# Altium integrated library Weapon_of_Aphelios.IntLib: 26 symbols
Pins are listed as number, name and electrical type; pins without a type are passive.

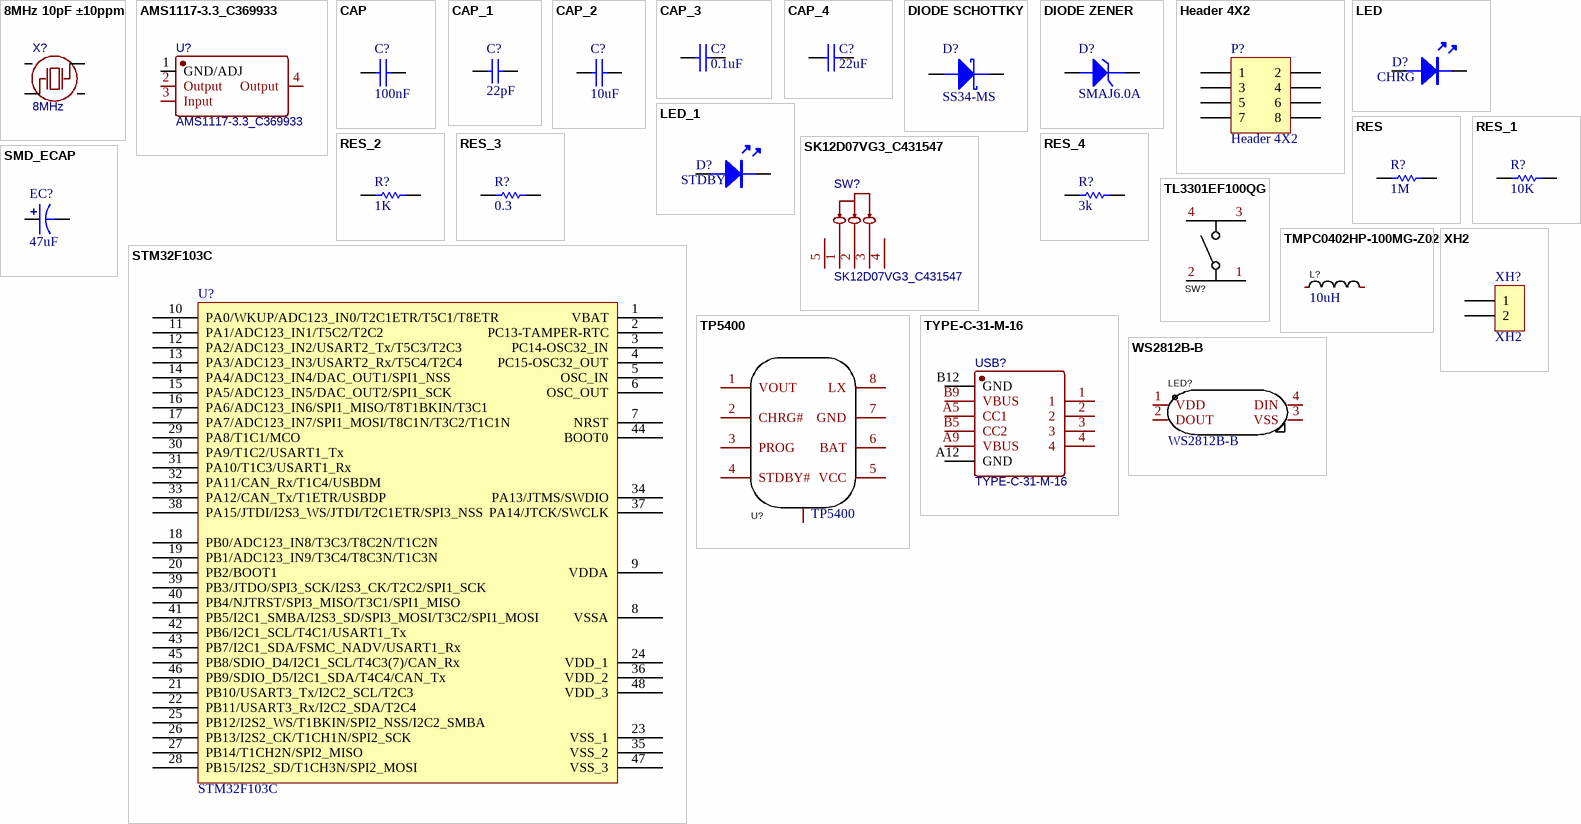
[diagram p0: symbols 8MHz 10pF ±10ppm to XH2]

## 8MHz 10pF ±10ppm
designator X?, comment 8MHz
BOM_Manufacturer: Zhejiang Abel Elec; BOM_Manufacturer Part: TAXM8M4RDBCCT2T; nameAlias: Frequency; Contributor: LCSC; BOM_Paste Type: expand; BOM_Assembly Type: smtWeld; BOM_Supplier: LCSC; BOM_Supplier Part: C400090; spicePre: X; spiceSymbolName: TAXM8M4RDBCCT2T
footprint OSC-SMD_4P-L3.2-W2.5-BL
pins: 1, 2, 3, 4

## AMS1117-3.3_C369933
designator U?
BOM_Manufacturer: KEXIN; Contributor: LCSC; BOM_Paste Type: expand; BOM_Assembly Type: smtWeld; BOM_Supplier: LCSC; BOM_Supplier Part: C369933; BOM_Manufacturer Part: AMS1117-3.3; spicePre: U; spiceSymbolName: AMS1117-3.3_C369933
footprint SOT-223-4_L6.5-W3.5-P2.30-LS7.0-BR
pins: 1 GND/ADJ, 2 Output, 3 Input, 4 Output

## CAP
designator C?, comment 100nF
无极性电容
footprint 0201C
footprint 0402C
footprint 0603C
footprint 0805C
footprint 1206C
footprint 1210C
footprint 1808C
footprint 1812C
footprint 1825C
footprint 2225C
footprint RAD-0.2
footprint RAD-0.3
pins: 1, 2

## CAP_1
designator C?, comment 22pF
footprint 0603C (Footprint not found)
pins: 1, 2

## CAP_2
designator C?, comment 10uF
无极性电容
footprint 0201C
footprint 0402C
footprint 0603C
footprint 0805C
footprint 1206C
footprint 1210C
footprint 1808C
footprint 1812C
footprint 1825C
footprint 2225C
footprint RAD-0.2
footprint RAD-0.3
pins: 1, 2

## CAP_3
designator C?, comment 0.1uF
无极性电容
footprint 0201C
footprint 0402C
footprint 0603C
footprint 0805C
footprint 1206C
footprint 1210C
footprint 1808C
footprint 1812C
footprint 1825C
footprint 2225C
footprint RAD-0.2
footprint RAD-0.3
pins: 1, 2

## CAP_4
designator C?, comment 22uF
无极性电容
footprint 0201C
footprint 0402C
footprint 0603C
footprint 0805C
footprint 1206C
footprint 1210C
footprint 1808C
footprint 1812C
footprint 1825C
footprint 2225C
footprint RAD-0.2
footprint RAD-0.3
pins: 1, 2

## DIODE SCHOTTKY
designator D?, comment SS34-MS
肖特基二极管
footprint DO-15
footprint DO-15L
footprint DO-15LV
footprint DO-15V
footprint DO-27
footprint DO-27V
footprint DO-35
footprint DO-35V
footprint DO-41
footprint DO-41G
footprint DO-41GV
footprint DO-41V
footprint DO-201AD
footprint DO-201ADV
footprint LL34 (玻封二极管)
footprint SMA/DO-214AC (塑封二极管)
footprint SMB/DO-214AA (塑封二极管)
footprint SMC/DO-214AB (塑封二极管)
footprint SOD-123 (塑封二极管)
footprint SOD-323 (塑封二极管)
footprint SOD-523 (塑封二极管)
pins: A, K

## DIODE ZENER
designator D?, comment SMAJ6.0A
瞬态二极管 SMAJ6.0A DO-214AC 6.0V
footprint DO-15
footprint DO-15L
footprint DO-15LV
footprint DO-15V
footprint DO-27
footprint DO-27V
footprint DO-35
footprint DO-35V
footprint DO-41
footprint DO-41G
footprint DO-41GV
footprint DO-41V
footprint DO-201AD
footprint DO-201ADV
footprint LL34 (玻封二极管)
footprint SMA/DO-214AC (塑封二极管)
footprint SMB/DO-214AA (塑封二极管)
footprint SMC/DO-214AB (塑封二极管)
footprint SOD-123 (塑封二极管)
footprint SOD-323 (塑封二极管)
footprint SOD-523 (塑封二极管)
pins: A, K

## Header 4X2
designator P?
Header, 4-Pin, Dual row; LatestRevisionDate: 17-Jul-2002; LatestRevisionNote: Re-released for DXP Platform.; Publisher: Altium Limited
footprint HDR2X4 (Connector; Header; 4x2 Position)
signal-integrity model Connector
pins: 1, 2, 3, 4, 5, 6, 7, 8

## LED
designator D?, comment CHRG
footprint LED5-BLUE
footprint LED5-GRE
footprint LED5-RED
footprint LED5-YEL
footprint LED3-BLUE
footprint LED3-GRE
footprint LED3-RED
footprint LED3-YEL
footprint 1WLED
footprint LED-0603B
footprint LED-0603G
footprint LED-0805R
footprint LED-0603W
footprint LED-0603Y
footprint LED-0805B
footprint LED-0805G
footprint LED-0805R
footprint LED-0603W
footprint LED-0805Y
footprint LED-1206B
footprint LED-1206G
footprint LED-1206R
footprint LED-1206W
footprint LED-1206Y
pins: A, K

## LED_1
designator D?, comment STDBY
footprint LED5-BLUE
footprint LED5-GRE
footprint LED5-RED
footprint LED5-YEL
footprint LED3-BLUE
footprint LED3-GRE
footprint LED3-RED
footprint LED3-YEL
footprint 1WLED
footprint LED-0603B
footprint LED-0603G
footprint LED-0805R
footprint LED-0603W
footprint LED-0603Y
footprint LED-0805B
footprint LED-0805G
footprint LED-0805R
footprint LED-0603W
footprint LED-0805Y
footprint LED-1206B
footprint LED-1206G
footprint LED-1206R
footprint LED-1206W
footprint LED-1206Y
pins: A, K

## RES
designator R?, comment 1M
footprint 0201R
footprint 0402R
footprint 0603R
footprint 0805R
footprint 1206R
footprint 1812R
footprint 2010R
footprint 2512R
footprint AXIAL0.3
footprint AXIAL0.4 (1/4W/1/2W)
footprint AXIAL0.5 (1/2W/1W)
footprint AXIAL0.6 (Variable Resistor; 2 Leads)
footprint AXIAL0.7 (Variable Resistor; 2 Leads)
footprint AXIAL0.9 (Magnetic-Core Inductor; 2 Leads)
footprint AXIAL0.8 (Adjustable Inductor; 2 Leads)
footprint AXIAL1.0 (Adjustable Magnetic-Core Inductor; 2 Leads)
pins: 1, 2

## RES_1
designator R?, comment 10K
footprint 0201R
footprint 0402R
footprint 0603R
footprint 0805R
footprint 1206R
footprint 1812R
footprint 2010R
footprint 2512R
footprint AXIAL0.3
footprint AXIAL0.4 (1/4W/1/2W)
footprint AXIAL0.5 (1/2W/1W)
footprint AXIAL0.6 (Variable Resistor; 2 Leads)
footprint AXIAL0.7 (Variable Resistor; 2 Leads)
footprint AXIAL0.9 (Magnetic-Core Inductor; 2 Leads)
footprint AXIAL0.8 (Adjustable Inductor; 2 Leads)
footprint AXIAL1.0 (Adjustable Magnetic-Core Inductor; 2 Leads)
pins: 1, 2

## RES_2
designator R?, comment 1K
footprint 0201R
footprint 0402R
footprint 0603R
footprint 0805R
footprint 1206R
footprint 1812R
footprint 2010R
footprint 2512R
footprint AXIAL0.3
footprint AXIAL0.4 (1/4W/1/2W)
footprint AXIAL0.5 (1/2W/1W)
footprint AXIAL0.6 (Variable Resistor; 2 Leads)
footprint AXIAL0.7 (Variable Resistor; 2 Leads)
footprint AXIAL0.9 (Magnetic-Core Inductor; 2 Leads)
footprint AXIAL0.8 (Adjustable Inductor; 2 Leads)
footprint AXIAL1.0 (Adjustable Magnetic-Core Inductor; 2 Leads)
pins: 1, 2

## RES_3
designator R?, comment 0.3
footprint 0201R
footprint 0402R
footprint 0603R
footprint 0805R
footprint 1206R
footprint 1812R
footprint 2010R
footprint 2512R
footprint AXIAL0.3
footprint AXIAL0.4 (1/4W/1/2W)
footprint AXIAL0.5 (1/2W/1W)
footprint AXIAL0.6 (Variable Resistor; 2 Leads)
footprint AXIAL0.7 (Variable Resistor; 2 Leads)
footprint AXIAL0.9 (Magnetic-Core Inductor; 2 Leads)
footprint AXIAL0.8 (Adjustable Inductor; 2 Leads)
footprint AXIAL1.0 (Adjustable Magnetic-Core Inductor; 2 Leads)
pins: 1, 2

## RES_4
designator R?, comment 3k
footprint 0201R
footprint 0402R
footprint 0603R
footprint 0805R
footprint 1206R
footprint 1812R
footprint 2010R
footprint 2512R
footprint AXIAL0.3
footprint AXIAL0.4 (1/4W/1/2W)
footprint AXIAL0.5 (1/2W/1W)
footprint AXIAL0.6 (Variable Resistor; 2 Leads)
footprint AXIAL0.7 (Variable Resistor; 2 Leads)
footprint AXIAL0.9 (Magnetic-Core Inductor; 2 Leads)
footprint AXIAL0.8 (Adjustable Inductor; 2 Leads)
footprint AXIAL1.0 (Adjustable Magnetic-Core Inductor; 2 Leads)
pins: 1, 2

## SK12D07VG3_C431547
designator SW?
BOM_Manufacturer: SHOU HAN; Contributor: LCSC; BOM_Supplier: LCSC; BOM_Supplier Part: C431547; BOM_Manufacturer Part: SK12D07VG3; BOM_JLCPCB Part Class: Extended Part; spicePre: S; spiceSymbolName: SK12D07VG3_C431547
footprint SW-TH_SK12D07VG3
pins: 1, 2, 3, 4, 5

## SMD_ECAP
designator EC?, comment 47uF
贴片电解电容
footprint SMD-EC3.0X3.3X5.4
footprint SMD-EC4.0X4.3X5.4
footprint SMD-EC5.0X5.3X5.4
footprint SMD-EC6.3X6.3X10
footprint SMD-EC8X8X10
footprint SMD-EC10X10X10
footprint SMD-EC-F12.5
footprint SMD-EC-F16
pins: 1, 2

## STM32F103C
designator U?
STM32单片机48引脚
footprint LQFP-48_M (Thin QFP, 48-Leads, Body 7x7mm, Pitch 0.5mm, IPC Low Density)
pins: 1 VBAT, 2 PC13-TAMPER-RTC, 3 PC14-OSC32_IN, 4 PC15-OSC32_OUT, 5 OSC_IN, 6 OSC_OUT, 7 NRST, 8 VSSA, 9 VDDA, 10 PA0/WKUP/ADC123_IN0/T2C1ETR/T5C1/T8ETR, 11 PA1/ADC123_IN1/T5C2/T2C2, 12 PA2/ADC123_IN2/USART2_Tx/T5C3/T2C3, 13 PA3/ADC123_IN3/USART2_Rx/T5C4/T2C4, 14 PA4/ADC123_IN4/DAC_OUT1/SPI1_NSS, 15 PA5/ADC123_IN5/DAC_OUT2/SPI1_SCK, 16 PA6/ADC123_IN6/SPI1_MISO/T8T1BKIN/T3C1, 17 PA7/ADC123_IN7/SPI1_MOSI/T8C1N/T3C2/T1C1N, 18 PB0/ADC123_IN8/T3C3/T8C2N/T1C2N, 19 PB1/ADC123_IN9/T3C4/T8C3N/T1C3N, 20 PB2/BOOT1, 21 PB10/USART3_Tx/I2C2_SCL/T2C3, 22 PB11/USART3_Rx/I2C2_SDA/T2C4, 23 VSS_1, 24 VDD_1, 25 PB12/I2S2_WS/T1BKIN/SPI2_NSS/I2C2_SMBA, 26 PB13/I2S2_CK/T1CH1N/SPI2_SCK, 27 PB14/T1CH2N/SPI2_MISO, 28 PB15/I2S2_SD/T1CH3N/SPI2_MOSI, 29 PA8/T1C1/MCO, 30 PA9/T1C2/USART1_Tx, 31 PA10/T1C3/USART1_Rx, 32 PA11/CAN_Rx/T1C4/USBDM, 33 PA12/CAN_Tx/T1ETR/USBDP, 34 PA13/JTMS/SWDIO, 35 VSS_2, 36 VDD_2, 37 PA14/JTCK/SWCLK, 38 PA15/JTDI/I2S3_WS/JTDI/T2C1ETR/SPI3_NSS, 39 PB3/JTDO/SPI3_SCK/I2S3_CK/T2C2/SPI1_SCK, 40 PB4/NJTRST/SPI3_MISO/T3C1/SPI1_MISO, 41 PB5/I2C1_SMBA/I2S3_SD/SPI3_MOSI/T3C2/SPI1_MOSI, 42 PB6/I2C1_SCL/T4C1/USART1_Tx, 43 PB7/I2C1_SDA/FSMC_NADV/USART1_Rx, 44 BOOT0, 45 PB8/SDIO_D4/I2C1_SCL/T4C3(7)/CAN_Rx, 46 PB9/SDIO_D5/I2C1_SDA/T4C4/CAN_Tx, 47 VSS_3, 48 VDD_3

## TL3301EF100QG
designator SW?  (value not drawn)
Manufacturer: E-Switch; Add into BOM: yes; Contact Current: 50mA; Voltage Rating (DC): 12V; Circuit: 单刀单掷; Actuator Style: 圆形按钮; Switch Length: 6mm; Switch Height: 3.7mm; Name: TL3301EF100QG; Symbol: TL3301EF100QG; Device: TL3301EF100QG; LCSC Part Name: TL3301EF100QG; Supplier Part: C273499; Manufacturer Part: TL3301EF100QG; Supplier Footprint: SMD,6x6mm; JLCPCB Part Class: Extended Part; Datasheet: https://atta.szlcsc.com/upload/public/pdf/source/20181030/C273499_C7AAC60B73C66F9CC8848B3DA9BBFF04.pdf; Supplier: LCSC; Convert to PCB: yes; Mounting Style: 立贴; With Lamp: -; Switch Width: 6mm
footprint KEY-SMD_4P-L6.0-W6.0-P4.50-LS10.0
3D model SMD_4P-L6.0-W6.0-H5.0-LS10.0-P4.5
pins: 1, 2, 3, 4

## TMPC0402HP-100MG-Z02
designator L?, comment 10uH
Manufacturer: 台庆; Symbol: TMPC0402HP-100MG-Z02; Add into BOM: yes; Tolerance: ±20%; Rated Current: 1.4A; DC Resistance (DCR): 215mΩ; Name: 10uH; Device: TMPC0402HP-100MG-Z02; LCSC Part Name: 10uH ±20% 1.4A 215mΩ; Supplier Part: C305203; Manufacturer Part: TMPC0402HP-100MG-Z02; Supplier Footprint: SMD; JLCPCB Part Class: Extended Part; Datasheet: https://atta.szlcsc.com/upload/public/pdf/source/20200917/C305203_F071C71654DE86DE842DF29DC4BB6A78.pdf; Supplier: LCSC; Convert to PCB: yes; Value: 10uH
footprint IND-SMD_L4.5-W4.1_TMPA0402SP
pins: 1, 2

## TP5400
designator U?
Manufacturer: TOPPOWER(南京拓微); Add into BOM: yes; Name: TP5400; Symbol: TP5400; Device: TP5400; LCSC Part Name: TP5400; Supplier Part: C24154; Manufacturer Part: TP5400; Supplier Footprint: SOIC-8_EP_150mil; JLCPCB Part Class: Extended Part; Datasheet: https://atta.szlcsc.com/upload/public/pdf/source/20131206/1457706662490.pdf; Supplier: LCSC; Convert to PCB: yes; Battery Chemistry: -; Number of Cells: -; Charge Current - Max: -; Battery Pack Voltage: -; Voltage - Supply (Max): -; Interface: -
footprint SOIC-8_L5.0-W4.0-P1.27-LS6.0-BL-EP2.0
pins: 1 VOUT, 2 CHRG#, 3 PROG, 4 STDBY#, 5 VCC, 6 BAT, 7 GND, 8 LX, 9

## TYPE-C-31-M-16
designator USB?
footprint TYPE-C-31-M-16
pins: 1, 2, 3, 4, A5 CC1, A9 VBUS, A12 GND, B5 CC2, B9 VBUS, B12 GND

## WS2812B-B
designator LED?
Manufacturer: worldsemi; Add into BOM: yes; Emitted Color: RGB三色; Name: WS2812B-B; Symbol: WS2812B-B; Device: WS2812B-B; LCSC Part Name: RGB三色 （注意防潮，请查阅规格书中对应具体内容）; Supplier Part: C114586; Manufacturer Part: WS2812B-B; Supplier Footprint: 5050(mm); JLCPCB Part Class: Extended Part; Datasheet: https://atta.szlcsc.com/upload/public/pdf/source/20200615/C114586_26EB6813EC9F2A3F6C7FBB2AD75DE01F.pdf; Supplier: LCSC; Convert to PCB: yes
footprint LED-SMD_4P-L5.0-W5.0-TL_WS2812B-B
pins: 1 VDD, 2 DOUT, 3 VSS, 4 DIN

## XH2
designator XH?
footprint XH2/2.54mm/90
footprint XH2/2.54mm/180
pins: 1, 2